# Altium schematic symbol library arduino_uno_sheild.SchLib: 1 symbol
Pins are listed as number, name and electrical type; pins without a type are passive.

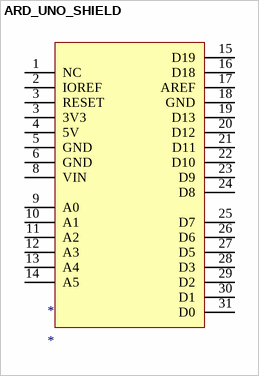
[diagram p0: symbol ARD_UNO_SHIELD]

## ARD_UNO_SHIELD
designator *
Arduino uno shield pinout
footprint UNO_SHIELD
pins: 1 NC, 2 IOREF, 3 3V3, 3 RESET, 4 5V, 5 GND, 6 GND, 8 VIN, 9 A0, 10 A1, 11 A2, 12 A3, 13 A4, 14 A5, 15 D19, 16 D18, 17 AREF, 18 GND, 19 D13, 20 D12, 21 D11, 22 D10, 23 D9, 24 D8, 25 D7, 26 D6, 27 D5, 28 D3, 29 D2, 30 D1, 31 D0